# Altium footprint library PCM1808.PcbLib: 1 footprints
Each footprint in its own frame and in the unit in brackets; x right, y up, seen from the top. Pads: shape width x height; smd on the part's side, far side on the other; paste and mask are expansions set on the pad; w line width, h text height; cw(c..) or ccw(c..) is an arc to the next point about the centre after c.
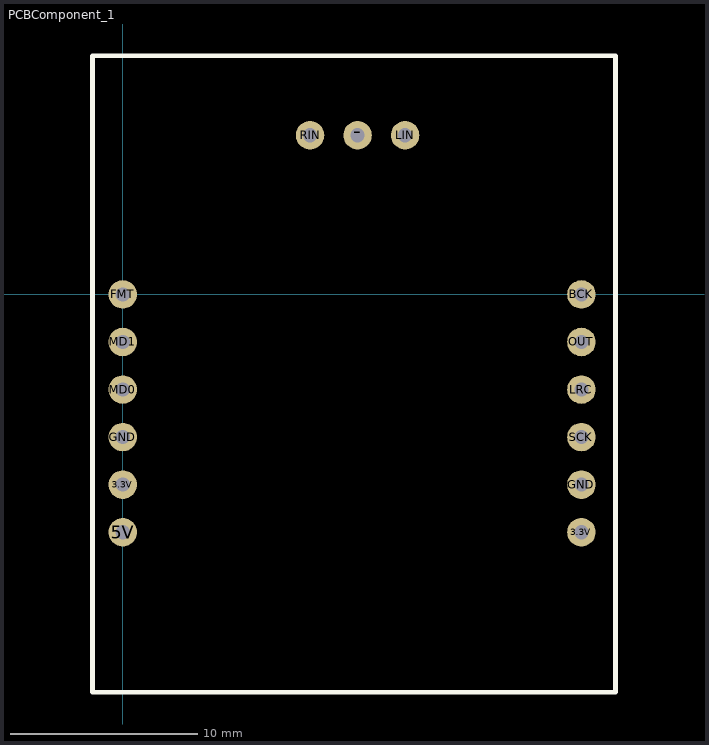
[diagram p0: the footprint, top view; thin cyan lines are the x and y axes]

## PCBComponent_1 [mil]
pads (15):
  round 60 hole 30 paste-99999: 3.3V(0,-400) 3.3V(964.57,-500) 5V(0,-500) -(493.7,334.65) BCK(964.57,0) FMT(0,0) GND(0,-300) GND(964.57,-400) LIN(593.7,334.65) LRC(964.57,-200) MD0(0,-200) MD1(0,-100) OUT(964.57,-100) RIN(393.7,334.65) SCK(964.57,-300)
Top Overlay:
  lines w10: -63.78,-836.61 -27.56,-836.61 1036.22,-836.61 1036.22,501.97 999.21,501.97 -63.78,501.97 -63.78,-836.61